# Altium integrated library Components - 14.02.26 - 11.43.IntLib: 1 symbol
Pins are listed as number, name and electrical type; pins without a type are passive.

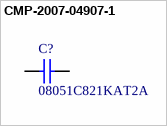
[diagram p0: symbol CMP-2007-04907-1]

## CMP-2007-04907-1
designator C?, comment 08051C821KAT2A
Manufacturer: AVX Interconnect / Elco; Part Number: 08051C821KAT2A
footprint CAPC2013X102X50NL20T25 (Chip Capacitor, 2-Leads, Body 2.01x1.25mm, IPC Medium Density)
footprint CAPC2013X102X50ML20T25 (Chip Capacitor, 2-Leads, Body 2.01x1.25mm, IPC Low Density)
footprint CAPC2013X102X50LL20T25 (Chip Capacitor, 2-Leads, Body 2.01x1.25mm, IPC High Density)
pins: 1, 2
1 alternate drawing of the same symbol